# EAGLE library part DRV8806 (library Sparky)
DRV8806 Quad Serial Interface Low-Side Driver IC HTSSOP-16 package
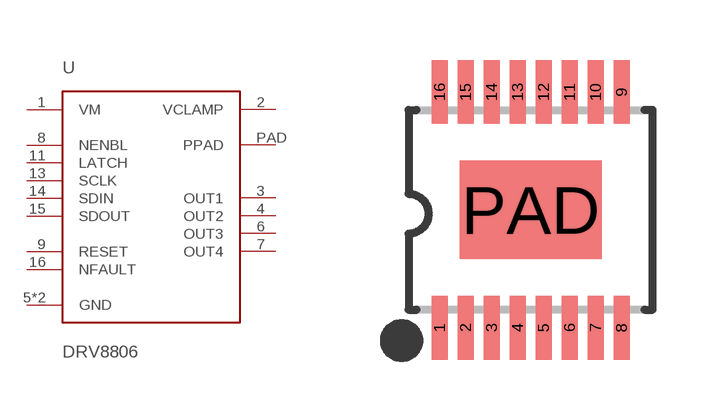
[diagram p22: symbol with the pads of HTSSOP-16; footprint HTSSOP-16]

Designator prefix -

## DRV8806HTSSOP-16  [HTSSOP-16]
1  VM  pwr
2  VCLAMP  pwr
3  OUT1
4  OUT2
5  GND  pwr
6  OUT3
7  OUT4
8  NENBL  in
9  RESET  in
11  LATCH  in
12  GND  pwr
13  SCLK  in
14  SDIN  in
15  SDOUT  out
16  NFAULT  in
PAD  PPAD  pwr

## Footprint HTSSOP-16 (pad centres in mm)
smd 0.4 x 1.6: 1 -2.275,-2.95; 2 -1.625,-2.95; 3 -0.975,-2.95; 4 -0.325,-2.95; 5 0.325,-2.95; 6 0.975,-2.95; 7 1.625,-2.95; 8 2.275,-2.95; 9 2.275,2.95; 10 1.625,2.95; 11 0.975,2.95; 12 0.325,2.95; 13 -0.325,2.95; 14 -0.975,2.95; 15 -1.625,2.95; 16 -2.275,2.95
smd 3.55 x 2.46: PAD 0,0